# Altium schematic symbol library merci.SchLib: 4 symbols
Pins are listed as number, name and electrical type; pins without a type are passive.

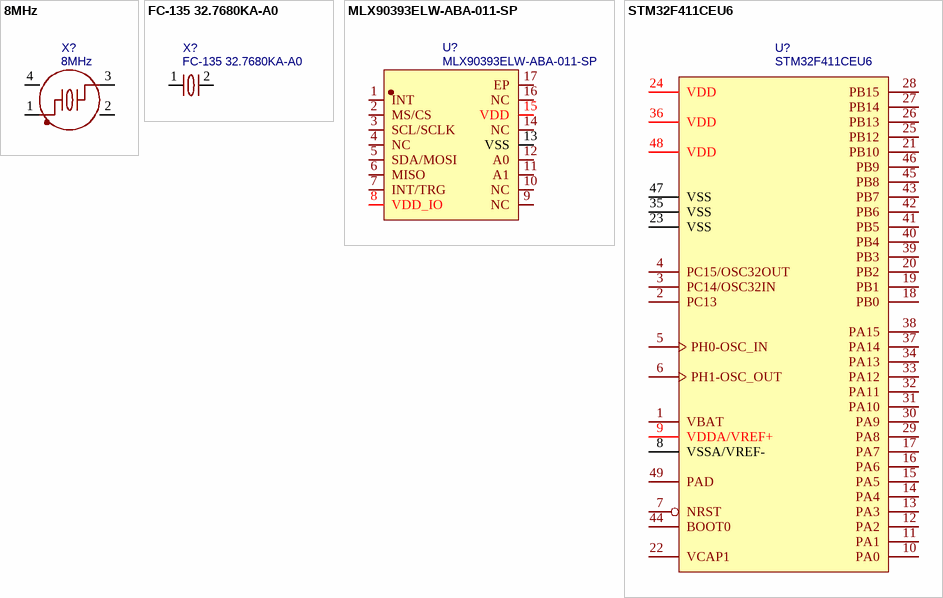
[diagram p0: symbols 8MHz to STM32F411CEU6]

## 8MHz
designator X?
BOM_Manufacturer: JWT(晶威特); BOM_Manufacturer Part: CF4008M00012T8188031; Contributor: LCSC; nameAlias: Frequency; BOM_Supplier: LCSC; BOM_Supplier Part: C2933033; spicePre: X; spiceSymbolName: CF4008M00012T8188031
footprint CRYSTAL-SMD_4P-L3.2-W2.5-BL
pins: 1, 2 GND, 3, 4 GND

## FC-135 32.7680KA-A0
designator X?
BOM_Manufacturer: EPSON(爱普生); Contributor: lcsc; BOM_Supplier: LCSC; BOM_Supplier Part: C2650444; BOM_Manufacturer Part: FC-135 32.7680KA-A0; link: https://atta.szlcsc.com/upload/public/pdf/source/20211127/C2650444_3DEB46927A758E75F8CF3F6FA0A6BD9B.pdf; spicePre: X; spiceSymbolName: FC-135 32.7680KA-A0
footprint CRYSTAL-SMD_L3.2-W1.5-FC-135R32.7680KF-A3
pins: 1, 2 GND

## MLX90393ELW-ABA-011-SP
designator U?
BOM_Manufacturer: Melexis(比利时迈来芯); Contributor: LCSC; BOM_Supplier: LCSC; BOM_Supplier Part: C1526586; BOM_Manufacturer Part: MLX90393ELW-ABA-011-SP; BOM_JLCPCB Part Class: Extended Part; spicePre: U; spiceSymbolName: MLX90393ELW-ABA-011-SP
footprint QFN-16_L3.0-W3.0-P0.50-TR-EP1.7
pins: 1 INT, 2 MS/CS, 3 SCL/SCLK, 4 NC, 5 SDA/MOSI, 6 MISO, 7 INT/TRG, 8 VDD_IO, 9 NC, 10 NC, 11 A1, 12 A0, 13 VSS, 14 NC, 15 VDD, 16 NC, 17 EP

## STM32F411CEU6
designator U?
BOM_Manufacturer: ST(意法半导体); BOM_Supplier: LCSC; BOM_Manufacturer Part: STM32F411CEU6; BOM_Supplier Part: C60420; BOM_JLCPCB Part Class: Extended Part; spicePre: U; spiceSymbolName: STM32F411CEU6
footprint UFQFPN-48_L7.0-W7.0-P0.50-BL-EP - duplicate
pins: 1 VBAT, 2 PC13, 3 PC14/OSC32IN, 4 PC15/OSC32OUT, 5 PH0-OSC_IN, 6 PH1-OSC_OUT, 7 NRST, 8 VSSA/VREF-, 9 VDDA/VREF+, 10 PA0, 11 PA1, 12 PA2, 13 PA3, 14 PA4, 15 PA5, 16 PA6, 17 PA7, 18 PB0, 19 PB1, 20 PB2, 21 PB10, 22 VCAP1, 23 VSS, 24 VDD, 25 PB12, 26 PB13, 27 PB14, 28 PB15, 29 PA8, 30 PA9, 31 PA10, 32 PA11, 33 PA12, 34 PA13, 35 VSS, 36 VDD, 37 PA14, 38 PA15, 39 PB3, 40 PB4, 41 PB5, 42 PB6, 43 PB7, 44 BOOT0, 45 PB8, 46 PB9, 47 VSS, 48 VDD, 49 PAD